# EAGLE library part ATMEL-MEGA328P (library gclueCPU)
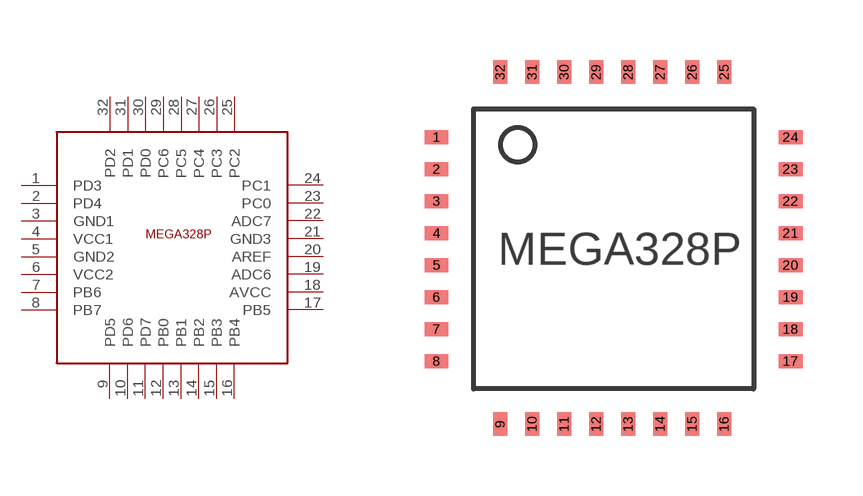
[diagram p1: symbol with the pads of ATNEL-MEGA328P; footprint ATNEL-MEGA328P]

Designator prefix -

## ATMEL-MEGA328P  [ATNEL-MEGA328P]
1  PD3
2  PD4
3  GND1
4  VCC1
5  GND2
6  VCC2
7  PB6
8  PB7
9  PD5
10  PD6
11  PD7
12  PB0
13  PB1
14  PB2
15  PB3
16  PB4
17  PB5
18  AVCC
19  ADC6
20  AREF
21  GND3
22  ADC7
23  PC0
24  PC1
25  PC2
26  PC3
27  PC4
28  PC5
29  PC6
30  PD0
31  PD1
32  PD2

## Footprint ATNEL-MEGA328P (pad centres in mm)
smd 0.6 x 0.35: 1 -4.43,2.79; 2 -4.43,1.99; 3 -4.43,1.19; 4 -4.43,0.39; 5 -4.43,-0.41; 6 -4.43,-1.21; 7 -4.43,-2.01; 8 -4.43,-2.81; 17 4.42,-2.81; 18 4.42,-2.01; 19 4.42,-1.21; 20 4.42,-0.41; 21 4.42,0.39; 22 4.42,1.19; 23 4.42,1.99; 24 4.42,2.79
smd 0.35 x 0.6: 9 -2.84,-4.38; 10 -2.04,-4.38; 11 -1.24,-4.38; 12 -0.44,-4.38; 13 0.36,-4.38; 14 1.16,-4.38; 15 1.96,-4.38; 16 2.76,-4.38; 25 2.76,4.42; 26 1.96,4.42; 27 1.16,4.42; 28 0.36,4.42; 29 -0.44,4.42; 30 -1.24,4.42; 31 -2.04,4.42; 32 -2.84,4.42